# Altium footprint library Fuse.PcbLib: 5 footprints
Each footprint in its own frame and in the unit in brackets; x right, y up, seen from the top. Pads: shape width x height; smd on the part's side, far side on the other; paste and mask are expansions set on the pad; w line width, h text height; cw(c..) or ccw(c..) is an arc to the next point about the centre after c.
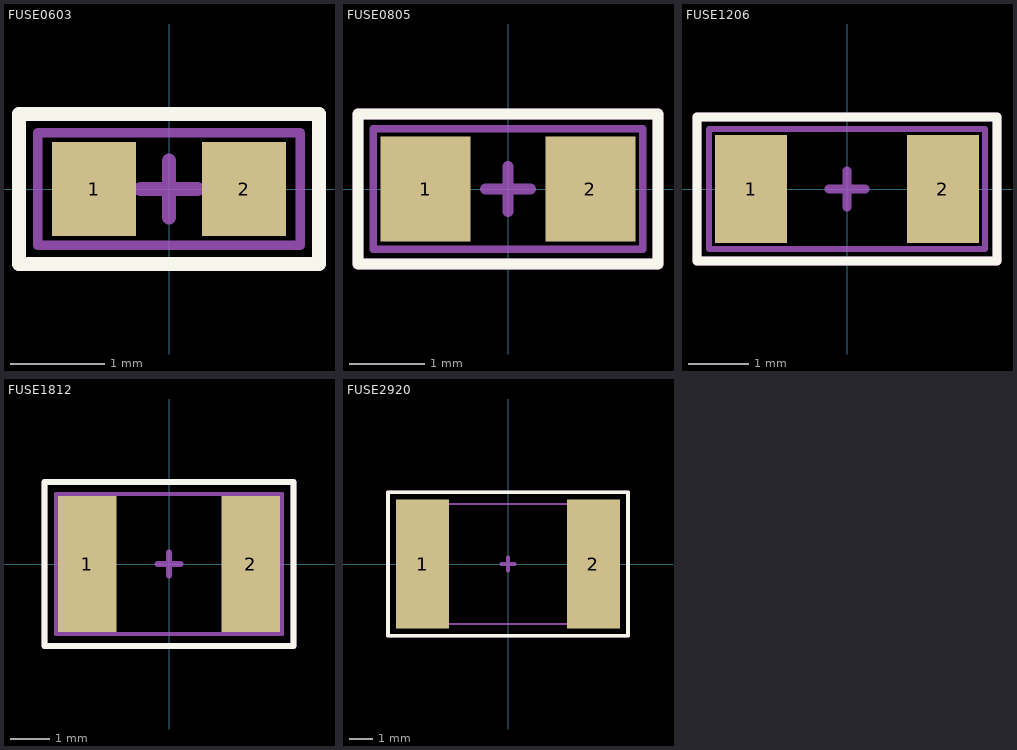
[diagram p0: the footprints below, top view; thin cyan lines are the x and y axes]

## FUSE0603 [mm]
pads (2):
  rect 0.9x1 smd: 1(-0.8,0) 2(0.8,0)
Top Overlay:
  lines w0.153: -1.6,-0.8 1.6,-0.8 1.6,0.8 -1.6,0.8 -1.6,-0.8
Top Assembly:
  lines w0.1: -1.4,-0.6 1.4,-0.6 1.4,0.6 -1.4,0.6 -1.4,-0.6
  text "'.Designator'" at -4.532,-0.333 h0.8
Top Courtyard:
  lines w0.153: -0.3,0 0.3,0 ; 0,-0.3 0,0.3 ; -1.6,-0.8 1.6,-0.8 1.6,0.8 -1.6,0.8 -1.6,-0.8
3D body "SF-0603.STEP": height 0.47, standoff 0.15, extent -0.8,-0.4 0.8,0.4

## FUSE0805 [mm]
pads (2):
  rect 1.2x1.4 smd: 1(-1.1,0) 2(1.1,0)
Top Overlay:
  lines w0.153: -2,-1 2,-1 2,1 -2,1 -2,-1
Top Assembly:
  lines w0.1: -1.8,-0.8 -1.8,0.8 1.8,0.8 1.8,-0.8 -1.8,-0.8
  text "'.Designator'" at -4.532,-0.333 h0.8
Top Courtyard:
  lines w0.153: -0.3,0 0.3,0 ; 0,-0.3 0,0.3 ; -2,-1 -2,1 2,1 2,-1 -2,-1
3D body "SF-0805.STEP": height 0.54, standoff 0.07, extent -1.2,-0.6 1.2,0.6

## FUSE1206 [mm]
pads (2):
  rect 1.2x1.8 smd: 1(-1.6,0) 2(1.6,0)
Top Overlay:
  lines w0.153: -2.5,-1.2 -2.5,1.2 2.5,1.2 2.5,-1.2 -2.5,-1.2
Top Assembly:
  lines w0.1: -2.3,-1 -2.3,1 2.3,1 2.3,-1 -2.3,-1
  text "'.Designator'" at -4.532,-0.333 h0.8
Top Courtyard:
  lines w0.153: -0.3,0 0.3,0 ; 0,-0.3 0,0.3 ; -2.5,-1.2 -2.5,1.2 2.5,1.2 2.5,-1.2 -2.5,-1.2
3D body "User Library-SF-1206F.step": height 0.61, standoff 0, extent -1.55,-0.775 1.55,0.775

## FUSE1812 [mm]
pads (2):
  rect 1.5x3.5 smd: 1(-2.1,0) 2(2.1,0)
Top Overlay:
  lines w0.153: -3.2,-2.1 -3.2,2.1 3.2,2.1 3.2,-2.1 -3.2,-2.1
Top Assembly:
  lines w0.1: -2.9,-1.8 2.9,-1.8 2.9,1.8 -2.9,1.8 -2.9,-1.8
  text "'.Designator'" at -4.532,-0.333 h0.8
Top Courtyard:
  lines w0.153: -0.3,0 0.3,0 ; 0,-0.3 0,0.3 ; -3.2,-2.1 -3.2,2.1 3.2,2.1 3.2,-2.1 -3.2,-2.1
3D body "Fuse_Bourns_MF-MSMF050-2_eec.STEP": height 0.85, standoff 0, extent -2.275,-1.62 2.275,1.62

## FUSE2920 [mm]
pads (2):
  rect 2.3x5.6 smd: 1(-3.7,0) 2(3.7,0)
Top Overlay:
  lines w0.153: -5.2,-3.1 5.2,-3.1 5.2,3.1 -5.2,3.1 -5.2,-3.1
Top Assembly:
  lines w0.1: -3.8,-2.6 -3.8,2.6 3.8,2.6 3.8,-2.6 -3.8,-2.6
  text "'.Designator'" at -4.532,-0.333 h0.8
Top Courtyard:
  lines w0.153: -0.3,0 0.3,0 ; 0,-0.3 0,0.3 ; -5.2,-3.1 5.2,-3.1 5.2,3.1 -5.2,3.1 -5.2,-3.1
3D body "0ZCF0050FF2C.stp": height 0.91, standoff 0.03, extent -3.8,-2.65 3.8,2.65